# Altium schematic symbol library STM8TL53C4U6TR.Schlib: 1 symbol
Pins are listed as number, name and electrical type; pins without a type are passive.

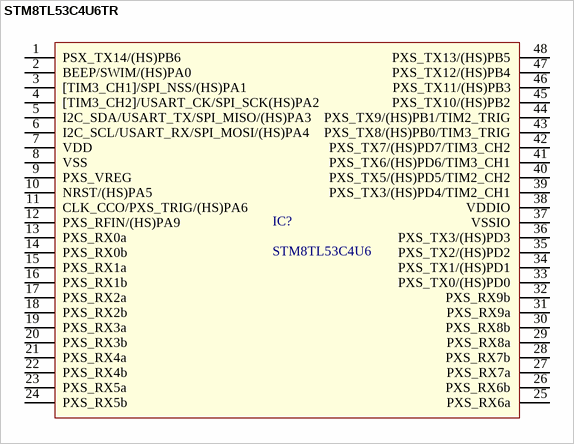
[diagram p0: symbol STM8TL53C4U6TR]

## STM8TL53C4U6TR
designator IC?, comment STM8TL53C4U6
8-bit Microcontrollers - MCU 8-bit Ultra-Low PWR 16kB ProxSense SPI
pins: 1 PSX_TX14/(HS)PB6, 2 BEEP/SWIM/(HS)PA0, 3 [TIM3_CH1]/SPI_NSS/(HS)PA1, 4 [TIM3_CH2]/USART_CK/SPI_SCK(HS)PA2, 5 I2C_SDA/USART_TX/SPI_MISO/(HS)PA3, 6 I2C_SCL/USART_RX/SPI_MOSI/(HS)PA4, 7 VDD, 8 VSS, 9 PXS_VREG, 10 NRST/(HS)PA5, 11 CLK_CCO/PXS_TRIG/(HS)PA6, 12 PXS_RFIN/(HS)PA9, 13 PXS_RX0a, 14 PXS_RX0b, 15 PXS_RX1a, 16 PXS_RX1b, 17 PXS_RX2a, 18 PXS_RX2b, 19 PXS_RX3a, 20 PXS_RX3b, 21 PXS_RX4a, 22 PXS_RX4b, 23 PXS_RX5a, 24 PXS_RX5b, 25 PXS_RX6a, 26 PXS_RX6b, 27 PXS_RX7a, 28 PXS_RX7b, 29 PXS_RX8a, 30 PXS_RX8b, 31 PXS_RX9a, 32 PXS_RX9b, 33 PXS_TX0/(HS)PD0, 34 PXS_TX1/(HS)PD1, 35 PXS_TX2/(HS)PD2, 36 PXS_TX3/(HS)PD3, 37 VSSIO, 38 VDDIO, 39 PXS_TX3/(HS)PD4/TIM2_CH1, 40 PXS_TX5/(HS)PD5/TIM2_CH2, 41 PXS_TX6/(HS)PD6/TIM3_CH1, 42 PXS_TX7/(HS)PD7/TIM3_CH2, 43 PXS_TX8/(HS)PB0/TIM3_TRIG, 44 PXS_TX9/(HS)PB1/TIM2_TRIG, 45 PXS_TX10/(HS)PB2, 46 PXS_TX11/(HS)PB3, 47 PXS_TX12/(HS)PB4, 48 PXS_TX13/(HS)PB5